# EAGLE library part ADC:ADC08B200(8BIT-PAR-200MSPS-1KBUFFER) (library QuantumOptics)
ADC08B200 ADC, National Semi, 8-bit 200MSPS parallel, with 1024 sample capture buffer, TQFP-48. http://www.national.com/pf/DC/ADC08B200.html
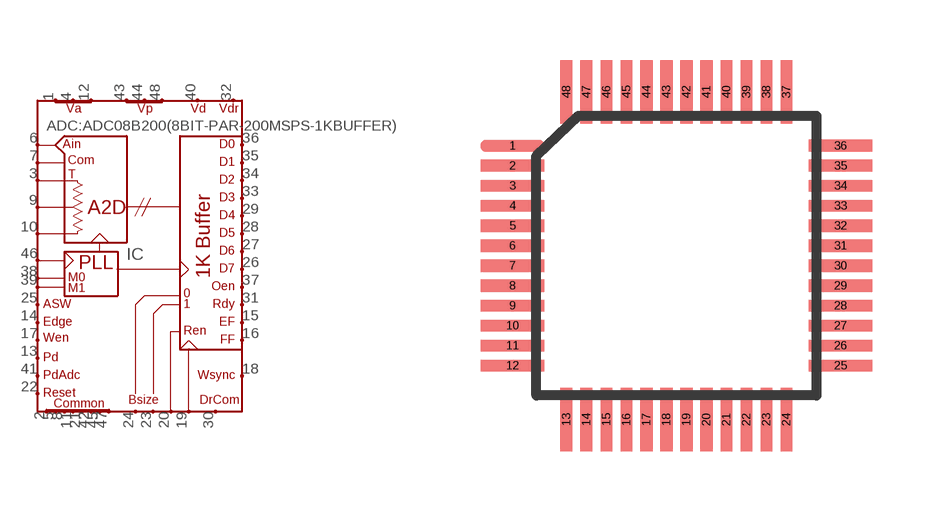
[diagram p112: symbol with the pads of TQFP48; footprint TQFP48]

Designator prefix IC

## ADC:ADC08B200(8BIT-PAR-200MSPS-1KBUFFER)  [TQFP48]
1  VA1
2  COM1
3  VRT  in
4  VA2
5  COM2
6  VIN  in
7  INCOM
8  COM3
9  VRM  in
10  VRB  in
11  COM4
12  VA3
13  PD  in
14  OEDGE/TEN  in
15  EF  out
16  FF  out
17  WEN  in
18  WENSYNC  out
19  RCLK  in
20  REN  in
21  COM5
22  RESET  in
23  BSIZE1  in
24  BSIZE0  in
25  ASW  in
26  D7  out
27  D6  out
28  D5  out
29  D4  out
30  DRGND
31  DRDY  out
32  VDR
33  D3  out
34  D2  out
35  D1  out
36  D0  out
37  OE  in
38  MULT0  in
39  MULT1  in
40  VD
41  PDADC  in
42  COM6
43  VP1
44  VP2
45  COM7
46  CLK  in
47  COM8
48  VP3

## Footprint TQFP48 (pad centres in mm)
TQFP-48, 0.5mm pin pitch. Based on National Semi's ADC08B200, http://www.national.com/pf/DC/ADC08B200.html
smd 1.6 x 0.3: 1 -4.1,2.75; 2 -4.1,2.25; 3 -4.1,1.75; 4 -4.1,1.25; 5 -4.1,0.75; 6 -4.1,0.25; 7 -4.1,-0.25; 8 -4.1,-0.75; 9 -4.1,-1.25; 10 -4.1,-1.75; 11 -4.1,-2.25; 12 -4.1,-2.75; 25 4.1,-2.75; 26 4.1,-2.25; 27 4.1,-1.75; 28 4.1,-1.25; 29 4.1,-0.75; 30 4.1,-0.25; 31 4.1,0.25; 32 4.1,0.75; 33 4.1,1.25; 34 4.1,1.75; 35 4.1,2.25; 36 4.1,2.75
smd 0.3 x 1.6: 13 -2.75,-4.1; 14 -2.25,-4.1; 15 -1.75,-4.1; 16 -1.25,-4.1; 17 -0.75,-4.1; 18 -0.25,-4.1; 19 0.25,-4.1; 20 0.75,-4.1; 21 1.25,-4.1; 22 1.75,-4.1; 23 2.25,-4.1; 24 2.75,-4.1; 37 2.75,4.1; 38 2.25,4.1; 39 1.75,4.1; 40 1.25,4.1; 41 0.75,4.1; 42 0.25,4.1; 43 -0.25,4.1; 44 -0.75,4.1; 45 -1.25,4.1; 46 -1.75,4.1; 47 -2.25,4.1; 48 -2.75,4.1